# Altium integrated library PRT-14417.IntLib: 1 symbol
Pins are listed as number, name and electrical type; pins without a type are passive.

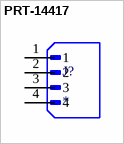
[diagram p0: symbol PRT-14417]

## PRT-14417
designator J?
QWIIC JST CONNECTOR - SMD 4-PIN; MF: SparkFun Electronics; MP: PRT-14417; SnapEDA_Link: https://www.snapeda.com/parts/PRT-14417/SparkFun+Electronics/view-part/?ref=snap; Package: None; Value: *; Check_prices: https://www.snapeda.com/parts/PRT-14417/SparkFun+Electronics/view-part/?ref=eda
footprint SPARKFUN_PRT-14417
pins: 1, 2, 3, 4